# EAGLE library part AD8330 (library ic)
AD8330: Variable gain amplifier (Analog Devices) DC-150MHz, 6mV offset, 62nV/rt(Hz) noise
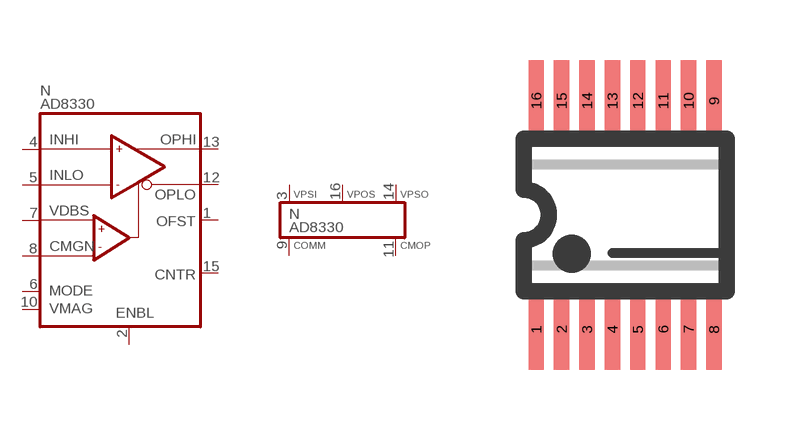
[diagram p64: symbol with the pads of QSOP16; footprint QSOP16]

Designator prefix N; gates  =AD8330 P=VAD8330

## AD8330  [QSOP16]
1   :OFST
2   :ENBL
3  P:VPSI  pwr
4   :INHI
5   :INLO
6   :MODE
7   :VDBS
8   :CMGN
9  P:COMM  pwr
10   :VMAG
11  P:CMOP  pwr
12   :OPLO
13   :OPHI
14  P:VPSO  pwr
15   :CNTR
16  P:VPOS  pwr

## Footprint QSOP16 (pad centres in mm)
QSOP-16, SMD QSOP IC package, 16 pins (fine pitch SMD)
smd 0.381 x 2.032: 1 -2.223,-2.857; 2 -1.587,-2.857; 3 -0.953,-2.857; 4 -0.318,-2.857; 5 0.318,-2.857; 6 0.953,-2.857; 7 1.587,-2.857; 8 2.223,-2.857; 9 2.223,2.857; 10 1.587,2.857; 11 0.953,2.857; 12 0.318,2.857; 13 -0.318,2.857; 14 -0.953,2.857; 15 -1.587,2.857; 16 -2.223,2.857